# Altium schematic symbol library RF Transceiver Modules - Modems.SchLib: 1 symbol
Pins are listed as number, name and electrical type; pins without a type are passive.

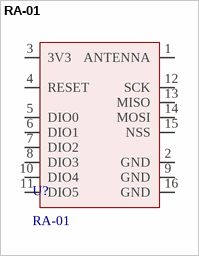
[diagram p0: symbol RA-01]

## RA-01
designator U?
Rf Txrx Module Ism < 1GHZ SMD; Manufacturer: Ai-Thinker; Designed: Ferdi; Supplier 1: Digi-Key; Manufacturer Part Number: Ra-01; RoHS: No; Category: Uncategorized; Pricing 1: 1=7,09, 10=6,497, 25=5,906 (USD); Supplier Part Number 1: 4570-RA-01DKR-ND
footprint RA-01 (RF Modem)
pins: 1 ANTENNA, 2 GND, 3 3V3, 4 RESET, 5 DIO0, 6 DIO1, 7 DIO2, 8 DIO3, 9 GND, 10 DIO4, 11 DIO5, 12 SCK, 13 MISO, 14 MOSI, 15 NSS, 16 GND